# EAGLE library part AD5668 (library joakim)
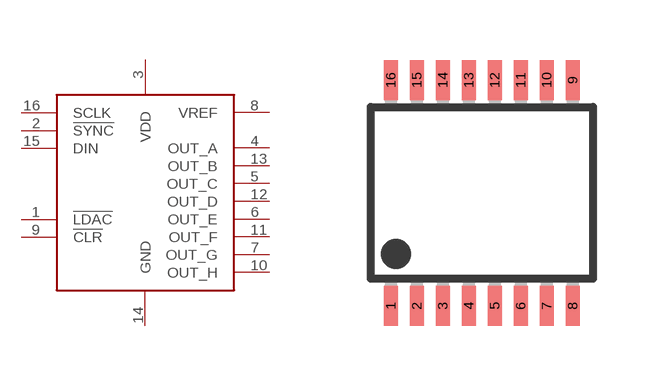
[diagram p77: symbol with the pads of TSSOP16J; footprint TSSOP16J]

Designator prefix IC

## AD5668  [TSSOP16J]
1  !LDAC
2  !SYNC
3  VDD  pwr
4  OUT_A
5  OUT_C
6  OUT_E
7  OUT_G
8  VREF
9  !CLR
10  OUT_H
11  OUT_F
12  OUT_D
13  OUT_B
14  GND
15  DIN
16  SCLK

## Footprint TSSOP16J (pad centres in mm)
16-Lead Plastic Thin Shrink Small Outline (ST) - 4.4 mm Body TSSOP Source: http://ww1.microchip.com/downloads/en/DeviceDoc/40039E.pdf
smd 0.35 x 1: 1 -2.268,-2.825; 2 -1.617,-2.825; 3 -0.968,-2.825; 4 -0.318,-2.825; 5 0.333,-2.825; 6 0.983,-2.825; 7 1.633,-2.825; 8 2.283,-2.825; 9 2.283,2.825; 10 1.633,2.825; 11 0.983,2.825; 12 0.333,2.825; 13 -0.318,2.825; 14 -0.968,2.825; 15 -1.617,2.825; 16 -2.268,2.825